# Altium footprint library Footprints.PcbLib: 34 footprints (part 2 of 3)
Each footprint in its own frame and in the unit in brackets; x right, y up, seen from the top. Pads: shape width x height; smd on the part's side, far side on the other; paste and mask are expansions set on the pad; w line width, h text height; cw(c..) or ccw(c..) is an arc to the next point about the centre after c.
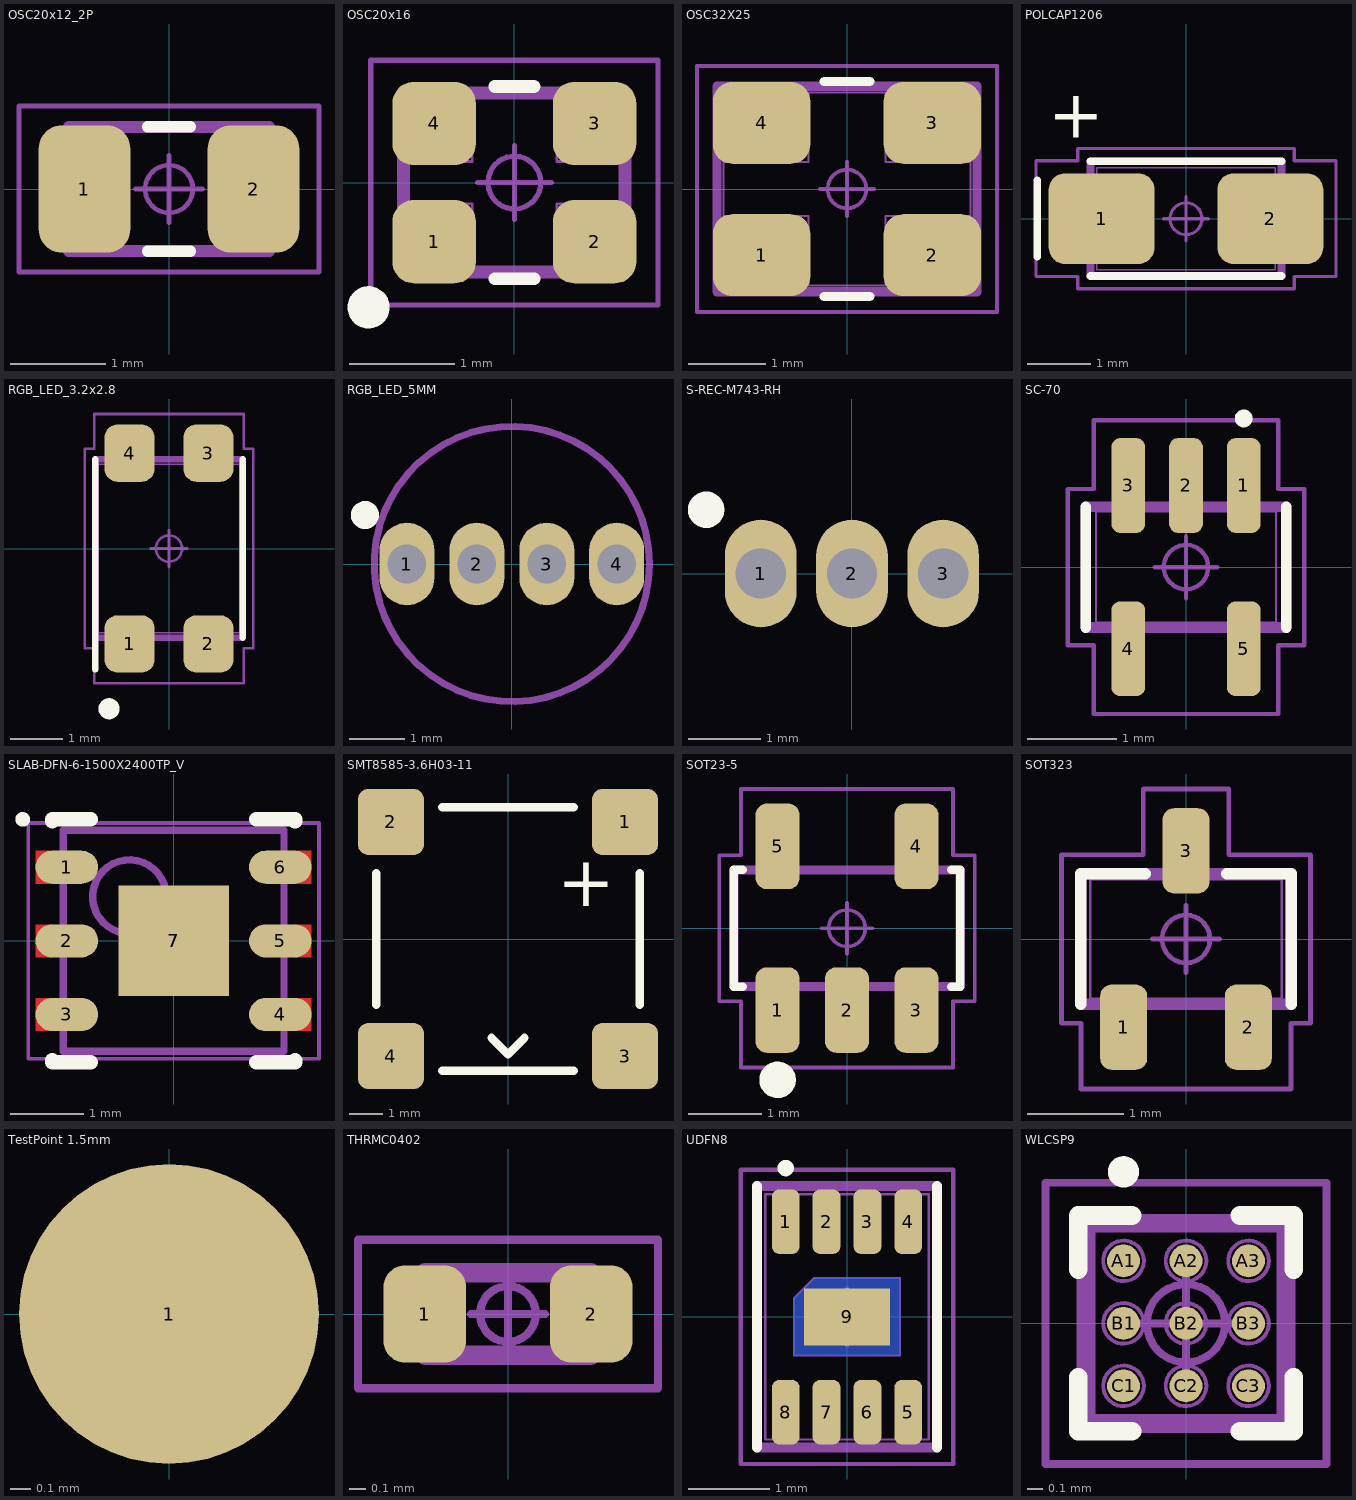
[diagram p1: the footprints below, top view; thin cyan lines are the x and y axes]

## OSC20x12_2P [mm] "Crystal 2.0x1.2 mm 2 Pins"
height 0.6
pads (2):
  rrect50% 0.96x1.33 smd: 1(-0.885,0) 2(0.885,0)
Top Overlay:
  lines w0.12: -0.225,-0.65 0.225,-0.65 ; -0.225,0.65 0.225,0.65
Assembly Top:
  lines w0.12: -1.05,-0.65 1.05,-0.65 1.05,0.65 -1.05,0.65 -1.05,-0.65
3D Top:
  lines w0.025: -1,-0.6 -1,0.6 ; -1,-0.6 -0.5,-0.6 -0.5,0.6 -1,0.6 ; -1,-0.6 1,-0.6 ; -1,-0.6 -1,0.6 ; -1,0.6 1,0.6 ; 1,-0.6 0.5,-0.6 0.5,0.6 1,0.6 ; 1,-0.6 1,0.6 ; 1,-0.6 1,0.6
Courtyard Top:
  circle w0.05: c0,0 r0.25
  lines w0.05: -0.35,0 0.35,0 ; 0,-0.35 0,0.35 ; -1.57,-0.87 1.57,-0.87 1.57,0.87 -1.57,0.87 -1.57,-0.87
3D body: height 0.6, standoff 0, extent -1,-0.6 1,0.6

## OSC20x16 [mm] "Crystal 2.0x1.6 mm 4 Pins"
height 0.7
pads (4):
  rrect51% 0.79x0.79 smd: 1(-0.76,-0.56) 2(0.76,-0.56) 3(0.76,0.56) 4(-0.76,0.56)
Top Overlay:
  circle w0.2: c-1.381,-1.181 r0.1
  lines w0.12: -0.185,-0.91 0.185,-0.91 ; -0.185,0.91 0.185,0.91
Assembly Top:
  lines w0.12: -1.05,-0.85 1.05,-0.85 1.05,0.85 -1.05,0.85 -1.05,-0.85
3D Top:
  lines w0.025: -1,-0.8 -1,-0.2 -0.4,-0.2 -0.4,-0.8 -1,-0.8 ; -1,-0.8 1,-0.8 ; -1,-0.8 -1,0.8 ; -1,0.8 -0.4,0.8 -0.4,0.2 -1,0.2 -1,0.8 ; -1,0.8 1,0.8 ; 1,-0.8 0.4,-0.8 0.4,-0.2 1,-0.2 1,-0.8 ; 1,-0.8 1,0.8 ; 1,0.8 1,0.2 0.4,0.2 0.4,0.8 1,0.8
Courtyard Top:
  circle w0.05: c0,0 r0.25
  lines w0.05: -0.35,0 0.35,0 ; 0,-0.35 0,0.35 ; -1.36,-1.16 1.36,-1.16 1.36,1.16 -1.36,1.16 -1.36,-1.16
3D body: height 0.7, standoff 0, extent -1,-0.8 1,0.8

## OSC32X25 [mm] "Crystal 3.2x2.5 mm 4 Pins"
height 0.6
pads (4):
  rrect47% 1.26x1.06 smd: 1(-1.105,-0.855) 2(1.105,-0.855) 3(1.105,0.855) 4(-1.105,0.855)
Top Overlay:
  lines w0.12: -0.295,-1.39 0.295,-1.39 ; -0.295,1.39 0.295,1.39
Assembly Top:
  lines w0.12: -1.68,-1.33 -1.68,1.33 1.68,1.33 1.68,-1.33 -1.68,-1.33
3D Top:
  lines w0.025: -1.6,-1.25 -1.6,1.25 ; -1.6,-1.25 1.6,-1.25 ; -1.6,-1.25 -0.5,-1.25 -0.5,-0.35 -1.6,-0.35 -1.6,-1.25 ; -1.6,1.25 1.6,1.25 ; -1.6,1.25 -1.6,0.35 -0.5,0.35 -0.5,1.25 -1.6,1.25 ; 1.6,-1.25 1.6,1.25 ; 1.6,-1.25 1.6,-0.35 0.5,-0.35 0.5,-1.25 1.6,-1.25 ; 1.6,1.25 0.5,1.25 0.5,0.35 1.6,0.35 1.6,1.25
Courtyard Top:
  circle w0.05: c0,0 r0.25
  lines w0.05: -0.35,0 0.35,0 ; 0,-0.35 0,0.35 ; -1.94,-1.59 -1.94,1.59 1.94,1.59 1.94,-1.59 -1.94,-1.59
3D body: height 0.6, standoff 0, extent -1.6,-1.25 1.6,1.25

## POLCAP1206 [mm] "POLCAP1206"
height 1.8
pads (2):
  rrect35% 1.66x1.42 smd: 1(-1.325,0) 2(1.325,0)
Top Overlay:
  lines w0.12: -2.335,-0.6 -2.335,0.6 ; -1.5,-0.9 1.5,-0.9 ; -1.5,0.9 1.5,0.9
  text "+" at -2.159,1.27 h0.76
Assembly Top:
  lines w0.12: -1.5,-0.9 -1.5,0.9 1.5,0.9 1.5,-0.9 -1.5,-0.9
3D Top:
  lines w0.025: -1.6,-0.6 -0.75,-0.6 -0.75,0.6 -1.6,0.6 -1.6,-0.6 ; -1.4,-0.8 -1.4,0.8 1.4,0.8 1.4,-0.8 -1.4,-0.8 ; 0.75,-0.6 0.75,0.6 1.6,0.6 1.6,-0.6 0.75,-0.6
Courtyard Top:
  circle w0.05: c0,0 r0.25
  lines w0.05: -0.35,0 0.35,0 ; 0,-0.35 0,0.35 ; -2.355,-0.91 -2.355,0.91 -1.7,0.91 -1.7,1.1 1.7,1.1 1.7,0.91 2.355,0.91 2.355,-0.91 1.7,-0.91 1.7,-1.1 -1.7,-1.1 -1.7,-0.91 -2.355,-0.91
3D body: height 1.8, standoff 0, extent -1.6,-0.8 1.6,0.8

## RGB_LED_3.2x2.8 [mm] "RGB_LED_3.2x2.8"
height 2.1
pads (4):
  rrect51% 0.95x1.09 smd: 1(-0.75,-1.815) 2(0.75,-1.815) 3(0.75,1.815) 4(-0.75,1.815)
Top Overlay:
  circle w0.2: c-1.143,-3.048 r0.1
  lines w0.12: -1.405,-2.3 -1.405,-1.7 -1.405,1.7 ; 1.405,-1.7 1.405,1.7
Assembly Top:
  lines w0.12: -1.4,-1.7 1.4,-1.7 1.4,1.7 -1.4,1.7 -1.4,-1.7
3D Top:
  lines w0.025: -1.35,-1.6 1.35,-1.6 1.35,1.6 -1.35,1.6 -1.35,-1.6 ; -1.1,-1.75 -1.1,-1.45 -0.4,-1.45 -0.4,-1.75 -1.1,-1.75 ; -1.1,1.45 -1.1,1.75 -0.4,1.75 -0.4,1.45 -1.1,1.45 ; 0.4,-1.75 0.4,-1.45 1.1,-1.45 1.1,-1.75 0.4,-1.75 ; 0.4,1.45 0.4,1.75 1.1,1.75 1.1,1.45 0.4,1.45
Courtyard Top:
  circle w0.05: c0,0 r0.25
  lines w0.05: -0.35,0 0.35,0 ; 0,-0.35 0,0.35 ; -1.6,-1.9 -1.425,-1.9 -1.425,-2.56 1.425,-2.56 1.425,-1.9 1.6,-1.9 1.6,1.9 1.425,1.9 1.425,2.56 -1.425,2.56 -1.425,1.9 -1.6,1.9 -1.6,-1.9
3D body: height 2.1, standoff 0, extent -1.348,-1.75 1.349,1.75

## RGB_LED_5MM [mm]
pads (4):
  oval 1x1.5 hole 0.7: 1(-1.905,0) 2(-0.635,0) 3(0.635,0) 4(1.905,0)
Top Overlay:
  circle w0.254: c-2.667,0.889 r0.127
Courtyard Top:
  circle w0.127: c0,0 r2.5

## S-REC-M743-RH [mm]
pads (3):
  oval 1x1.5 hole 0.7: 1(-1.27,0) 2(0,0) 3(1.27,0)
Top Overlay:
  circle w0.254: c-2.032,0.889 r0.127
3D body: height 3.96, standoff 0, extent -1.905,-1.27 1.905,1.27

## SC-70 [mm] "SC-70"
height 1.1
pads (5):
  rrect53% 0.38x1.07 smd: 1(0.65,0.92) 2(0,0.92) 3(-0.65,0.92) 4(-0.65,-0.92) 5(0.65,-0.92)
Top Overlay:
  circle w0.1: c0.65,1.675 r0.05
  lines w0.12: -1.13,-0.68 -1.13,0.68 ; 1.13,-0.68 1.13,0.68
Assembly Top:
  lines w0.12: -1.13,-0.68 -1.13,0.68 1.13,0.68 1.13,-0.68 -1.13,-0.68
3D Top:
  lines w0.025: -1.012,-0.625 -1.012,0.625 1.012,0.625 1.012,-0.625 -1.012,-0.625 ; -0.763,-1.05 -0.537,-1.05 -0.537,-0.715 -0.763,-0.715 -0.763,-1.05 ; -0.763,0.715 -0.537,0.715 -0.537,1.05 -0.763,1.05 -0.763,0.715 ; -0.112,0.715 0.112,0.715 0.112,1.05 -0.112,1.05 -0.112,0.715 ; 0.537,-1.05 0.763,-1.05 0.763,-0.715 0.537,-0.715 0.537,-1.05 ; 0.537,0.715 0.763,0.715 0.763,1.05 0.537,1.05 0.537,0.715
Courtyard Top:
  circle w0.05: c0,0 r0.25
  lines w0.05: -0.35,0 0.35,0 ; 0,-0.35 0,0.35 ; -1.33,-0.88 -1.33,0.88 -1.04,0.88 -1.04,1.655 1.04,1.655 1.04,0.88 1.33,0.88 1.33,-0.88 1.04,-0.88 1.04,-1.655 -1.04,-1.655 -1.04,-0.88 -1.33,-0.88
3D body: height 1.1, standoff 0, extent -1.012,-1.05 1.013,1.05

## SLAB-DFN-6-1500X2400TP_V [mm] "SON, 6-Leads, Body 3x3mm, Pitch 1mm, Thermal Pad 1.6x2.5mm"
height 0.8
pads (8):
  oval 0.85x0.45 smd: 1(-1.45,1) 2(-1.45,0) 3(-1.45,-1) 4(1.45,-1) 5(1.45,0) 6(1.45,1)
  rect 1.5x1.5 smd: 7(0,0)
  rect 1.5x1.5 on Top Solder mask-1: 7(0,0)
Top Layer:
  rectangle: 1.65,0.775 1.875,1.225
  rectangle: -1.875,-1.225 -1.65,-0.775
  rectangle: -1.875,-0.225 -1.65,0.225
  rectangle: -1.875,0.775 -1.65,1.225
  rectangle: 1.65,-0.225 1.875,0.225
  rectangle: 1.65,-1.225 1.875,-0.775
Top Overlay:
  circle w0.1: c-2.05,1.65 r0.05
  lines w0.2: -1.65,-1.625 -1.65,-1.65 -1.125,-1.65 ; -1.65,1.625 -1.65,1.65 -1.125,1.65 ; 1.125,-1.65 1.65,-1.65 1.65,-1.625 ; 1.125,1.65 1.65,1.65 1.65,1.625
3D Top:
  circle w0.1: c-0.6,0.6 r0.5
  lines w0.1: -1.5,-1.5 -1.5,1.5 1.5,1.5 1.5,-1.5 -1.5,-1.5
Courtyard Top:
  lines w0.05: -1.975,-1.6 -1.975,1.6 1.975,1.6 1.975,-1.6 -1.975,-1.6
  lines w0.1: -0.5,0 0.5,0 ; 0,-0.5 0,0.5
3D body: height 0.8, standoff 0, extent -1.5,-1.5 1.5,1.5

## SMT8585-3.6H03-11 [mm] "SMT8585-3.6H03-11"
height 3
pads (4):
  rrect30% 2x2 smd: 1(3.55,3.55) 2(-3.55,3.55) 3(3.55,-3.55) 4(-3.55,-3.55)
Top Overlay:
  lines w0.254: -4,-2 -4,2 ; -2,-4 2,-4 ; -2,4 2,4 ; -0.5,-3 0,-3.5 0.5,-3 ; 4,-2 4,2
  text "+" at 1.5,1 h1.52
3D body: height 3, standoff 0, extent -4,-4.25 4,4.25

## SOT23-5 [mm]
height 1.1
pads (5):
  rrect50% 0.6x1.17 smd: 1(-0.95,-1.12) 2(0,-1.12) 3(0.95,-1.12) 4(0.95,1.12) 5(-0.95,1.12)
Top Overlay:
  circle w0.25: c-0.95,-2.075 r0.125
  lines w0.12: -1.43,-0.8 -1.55,-0.8 -1.55,0.8 -1.43,0.8 ; 1.43,-0.8 1.55,-0.8 1.55,0.8 1.43,0.8
Assembly Top:
  lines w0.12: -1.55,-0.8 -1.55,0.8 1.55,0.8 1.55,-0.8 -1.55,-0.8
3D Top:
  lines w0.025: -1.5,-0.75 -1.5,0.75 1.5,0.75 1.5,-0.75 -1.5,-0.75 ; -1.138,-1.375 -0.763,-1.375 -0.763,-0.975 -1.138,-0.975 -1.138,-1.375 ; -1.138,0.975 -0.763,0.975 -0.763,1.375 -1.138,1.375 -1.138,0.975 ; -0.188,-1.375 0.188,-1.375 0.188,-0.975 -0.188,-0.975 -0.188,-1.375 ; 0.763,-1.375 1.138,-1.375 1.138,-0.975 0.763,-0.975 0.763,-1.375 ; 0.763,0.975 1.138,0.975 1.138,1.375 0.763,1.375 0.763,0.975
Courtyard Top:
  circle w0.05: c0,0 r0.25
  lines w0.05: -0.35,0 0.35,0 ; 0,-0.35 0,0.35 ; -1.75,-1 -1.75,1 -1.45,1 -1.45,1.905 1.45,1.905 1.45,1 1.75,1 1.75,-1 1.45,-1 1.45,-1.905 -1.45,-1.905 -1.45,-1 -1.75,-1
3D body: height 1.1, standoff 0, extent -1.5,-1.375 1.5,1.375

## SOT323 [mm] "SOT323"
height 1.1
pads (3):
  rrect49% 0.49x0.89 smd: 1(-0.65,-0.92) 2(0.65,-0.92) 3(0,0.92)
Top Overlay:
  lines w0.12: -1.1,-0.68 -1.1,0.68 -0.425,0.68 ; 0.425,0.68 1.1,0.68 1.1,-0.68
Assembly Top:
  lines w0.12: -1.1,-0.68 -1.1,0.68 1.1,0.68 1.1,-0.68 -1.1,-0.68
3D Top:
  lines w0.025: -1,-0.625 -1,0.625 1,0.625 1,-0.625 -1,-0.625 ; -0.825,-1.05 -0.475,-1.05 -0.475,-0.75 -0.825,-0.75 -0.825,-1.05 ; -0.175,0.75 0.175,0.75 0.175,1.05 -0.175,1.05 -0.175,0.75 ; 0.475,-1.05 0.825,-1.05 0.825,-0.75 0.475,-0.75 0.475,-1.05
Courtyard Top:
  circle w0.05: c0,0 r0.25
  lines w0.05: -0.35,0 0.35,0 ; 0,-0.35 0,0.35 ; -1.3,-0.88 -1.3,0.88 -0.445,0.88 -0.445,1.565 0.445,1.565 0.445,0.88 1.3,0.88 1.3,-0.88 1.095,-0.88 1.095,-1.565 -1.095,-1.565 -1.095,-0.88 -1.3,-0.88
3D body: height 1.1, standoff 0, extent -1,-1.05 1,1.05

## TestPoint 1.5mm [mm]
pads (1):
  round 1.5 smd: 1(0,0)

## THRMC0402 [mm] "THRMC0402"
height 0.35
pads (2):
  rrect52% 0.5x0.59 smd: 1(-0.505,0) 2(0.505,0)
Assembly Top:
  lines w0.12: -0.5,-0.25 -0.5,0.25 0.5,0.25 0.5,-0.25 -0.5,-0.25
3D Top:
  lines w0.025: -0.5,-0.25 -0.5,0.25 ; -0.5,-0.25 0.5,-0.25 ; -0.5,-0.25 -0.3,-0.25 -0.3,0.25 -0.5,0.25 ; -0.5,-0.25 -0.5,0.25 ; -0.5,0.25 0.5,0.25 ; 0.5,-0.25 0.5,0.25 ; 0.5,-0.25 0.5,0.25 ; 0.5,-0.25 0.3,-0.25 0.3,0.25 0.5,0.25
Courtyard Top:
  circle w0.05: c0,0 r0.169
  lines w0.05: -0.225,0 0.225,0 ; 0,-0.225 0,0.225 ; -0.91,-0.45 -0.91,0.45 0.91,0.45 0.91,-0.45 -0.91,-0.45
3D body: height 0.35, standoff 0, extent -0.5,-0.25 0.5,0.25

## UDFN8 [mm] "UDFN8"
height 0.65
pads (9):
  rrect53% 0.34x0.79 smd: 1(-0.75,1.165) 2(-0.25,1.165) 3(0.25,1.165) 4(0.75,1.165) 5(0.75,-1.165) 6(0.25,-1.165) 7(-0.25,-1.165) 8(-0.75,-1.165)
  rect 1.05x0.7 smd: 9(0,0)
Bottom Layer:
  region: -0.65,0 -0.65,0.225 -0.4,0.475 0.65,0.475 0.65,-0.475 -0.65,-0.475
Top Overlay:
  circle w0.1: c-0.75,1.82 r0.05
  lines w0.12: -1.1,-1.6 -1.1,1.6 ; 1.1,-1.6 1.1,1.6
Assembly Top:
  lines w0.12: -1.1,-1.6 1.1,-1.6 1.1,1.6 -1.1,1.6 -1.1,-1.6
3D Top:
  lines w0.025: -1,-1.5 1,-1.5 1,1.5 -1,1.5 -1,-1.5 ; -0.87,-1.45 -0.63,-1.45 -0.63,-0.9 -0.87,-0.9 -0.87,-1.45 ; -0.87,0.9 -0.63,0.9 -0.63,1.45 -0.87,1.45 -0.87,0.9 ; -0.65,-0.475 -0.65,0.225 -0.4,0.475 0.65,0.475 0.65,-0.475 -0.65,-0.475 ; -0.37,-1.45 -0.13,-1.45 -0.13,-0.9 -0.37,-0.9 -0.37,-1.45 ; -0.37,0.9 -0.13,0.9 -0.13,1.45 -0.37,1.45 -0.37,0.9 ; 0.13,-1.45 0.37,-1.45 0.37,-0.9 0.13,-0.9 0.13,-1.45 ; 0.13,0.9 0.37,0.9 0.37,1.45 0.13,1.45 0.13,0.9 ; 0.63,-1.45 0.87,-1.45 0.87,-0.9 0.63,-0.9 0.63,-1.45 ; 0.63,0.9 0.87,0.9 0.87,1.45 0.63,1.45 0.63,0.9
Courtyard Top:
  circle w0.05: c0,0 r0.25
  lines w0.05: -0.35,0 0.35,0 ; 0,-0.35 0,0.35 ; -1.3,-1.8 1.3,-1.8 1.3,1.8 -1.3,1.8 -1.3,-1.8
3D body: height 0.65, standoff 0, extent -1,-1.5 1,1.5

## WLCSP9 [mm] "WLCSP9"
height 0.565
pads (9):
  round 0.21 smd: A1(-0.4,0.4) A2(0,0.4) A3(0.4,0.4) B1(-0.4,0) B2(0,0) B3(0.4,0) C1(-0.4,-0.4) C2(0,-0.4) C3(0.4,-0.4)
Top Overlay:
  circle w0.1: c-0.4,0.97 r0.05
  lines w0.12: -0.69,-0.345 -0.69,-0.69 -0.345,-0.69 ; -0.69,0.345 -0.69,0.69 -0.345,0.69 ; 0.345,-0.69 0.69,-0.69 0.69,-0.345 ; 0.345,0.69 0.69,0.69 0.69,0.345
Assembly Top:
  lines w0.12: -0.64,-0.64 -0.64,0.64 0.64,0.64 0.64,-0.64 -0.64,-0.64
3D Top:
  circle w0.025: c-0.4,0.4 r0.13
  circle w0.025: c0,0.4 r0.13
  circle w0.025: c0.4,0.4 r0.13
  circle w0.025: c-0.4,0 r0.13
  circle w0.025: c0,0 r0.13
  circle w0.025: c0.4,0 r0.13
  circle w0.025: c-0.4,-0.4 r0.13
  circle w0.025: c0,-0.4 r0.13
  circle w0.025: c0.4,-0.4 r0.13
  lines w0.025: -0.62,-0.62 -0.62,0.62 0.62,0.62 0.62,-0.62 -0.62,-0.62
Courtyard Top:
  circle w0.05: c0,0 r0.25
  lines w0.05: -0.35,0 0.35,0 ; 0,-0.35 0,0.35 ; -0.9,-0.9 -0.9,0.9 0.9,0.9 0.9,-0.9 -0.9,-0.9
3D body: height 0.57, standoff 0, extent -0.62,-0.62 0.62,0.62